# Altium integrated library TI_Logic_Specialty_Logic.IntLib: 2504 symbols (part 36 of 81)
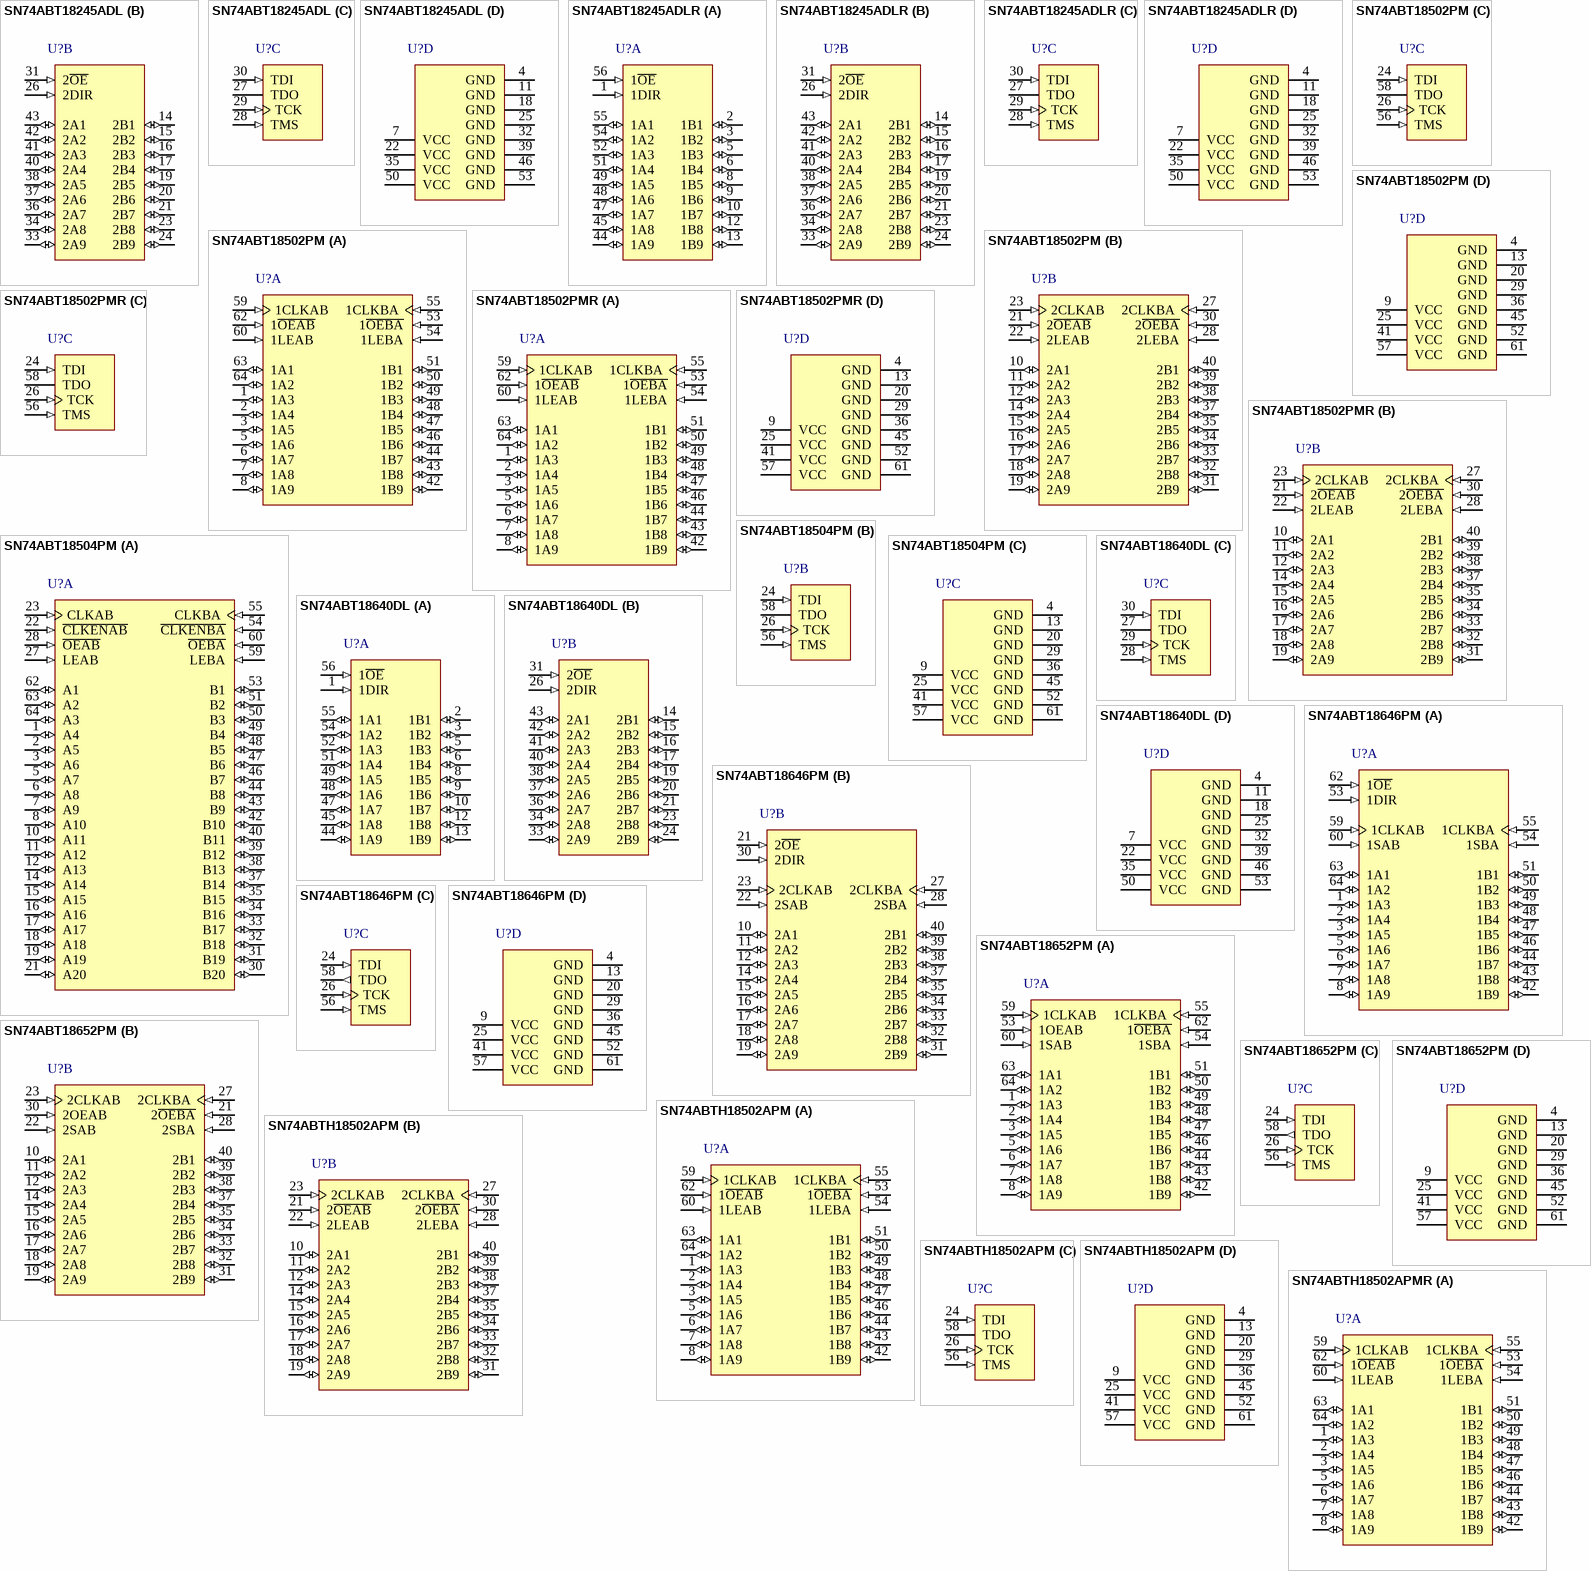
[diagram p139: symbols SN74ABT18245ADL to SN74ABTH18502APMR]

## SN74ABTH18502APM
designator U?
Scan Test Devices With 18-Bit Universal Bus Transceivers, PM0064A, JEDEC TRAY (10+1); Generic Part Number: SN74ABTH18502A; Manufacturer: Texas Instruments; PartNumber: SN74ABTH18502APM; VCC(Min)(V): 4.5; VCC(Max)(V): 5.5; Output Type: TTL; ICC @ Nom Voltage(Max)(mA): 24; Bits(#): 18; F @ Nom Voltage(Max)(Mhz): 150; Rating: Catalog; Technology Family: ABT; Voltage(Nom)(V): 5; Output Drive (IOL/IOH)(Max)(mA): 64/-32; Output Logic: True; DatasheetVersion: SCBS164E; PackageReference: PM0064A; Supplier 1: Mouser; Supplier Part Number 1: 595-SN74ABTH18502APM; Supplier 2: Digi-Key; Supplier Part Number 2: 296-4134-ND; Input Type: TTL; Operating Temperature Range(C): -40 to 85; tpd @ Nom Voltage(Max)(ns): 5.5; ComponentLink1Description: Manufacturer URL; ComponentLink1URL: http://www.ti.com/; ComponentLink2Description: Datasheet; ComponentLink2URL: http://www.ti.com/lit/ds/symlink/sn74abth18502a.pdf
footprint PM0064A_N (QFP, 64-Leads, Body 10x10mm, Pitch 0.5mm, IPC Medium Density)
footprint PM0064A_M (QFP, 64-Leads, Body 10x10mm, Pitch 0.5mm, IPC Low Density)
footprint PM0064A_L (QFP, 64-Leads, Body 10x10mm, Pitch 0.5mm, IPC High Density)
part A pins: 1 1A3 (io) "Normal-function A-bus I/O ports. See function table for normal-mode logic.", 2 1A4 (io) "Normal-function A-bus I/O ports. See function table for normal-mode logic.", 3 1A5 (io) "Normal-function A-bus I/O ports. See function table for normal-mode logic.", 5 1A6 (io) "Normal-function A-bus I/O ports. See function table for normal-mode logic.", 6 1A7 (io) "Normal-function A-bus I/O ports. See function table for normal-mode logic.", 7 1A8 (io) "Normal-function A-bus I/O ports. See function table for normal-mode logic.", 8 1A9 (io) "Normal-function A-bus I/O ports. See function table for normal-mode logic.", 42 1B9 (io) "Normal-function B-bus I/O ports. See function table for normal-mode logic.", 43 1B8 (io) "Normal-function B-bus I/O ports. See function table for normal-mode logic.", 44 1B7 (io) "Normal-function B-bus I/O ports. See function table for normal-mode logic.", 46 1B6 (io) "Normal-function B-bus I/O ports. See function table for normal-mode logic.", 47 1B5 (io) "Normal-function B-bus I/O ports. See function table for normal-mode logic.", 48 1B4 (io) "Normal-function B-bus I/O ports. See function table for normal-mode logic.", 49 1B3 (io) "Normal-function B-bus I/O ports. See function table for normal-mode logic.", 50 1B2 (io) "Normal-function B-bus I/O ports. See function table for normal-mode logic.", 51 1B1 (io) "Normal-function B-bus I/O ports. See function table for normal-mode logic.", 53 1~{OEBA} (in) "Normal-function output enables. See function table for normal-mode logic. An internal pullup at each terminal forces the terminal to a high level if left unconnected.", 54 1LEBA (in) "Normal-function latch enables. See function table for normal-mode logic.", 55 1CLKBA (in) "Normal-function clock inputs. See function table for normal-mode logic.", 59 1CLKAB (in) "Normal-function clock inputs. See function table for normal-mode logic.", 60 1LEAB (in) "Normal-function latch enables. See function table for normal-mode logic.", 62 1~{OEAB} (in) "Normal-function output enables. See function table for normal-mode logic. An internal pullup at each terminal forces the terminal to a high level if left unconnected.", 63 1A1 (io) "Normal-function A-bus I/O ports. See function table for normal-mode logic.", 64 1A2 (io) "Normal-function A-bus I/O ports. See function table for normal-mode logic."
part B pins: 10 2A1 (io) "Normal-function A-bus I/O ports. See function table for normal-mode logic.", 11 2A2 (io) "Normal-function A-bus I/O ports. See function table for normal-mode logic.", 12 2A3 (io) "Normal-function A-bus I/O ports. See function table for normal-mode logic.", 14 2A4 (io) "Normal-function A-bus I/O ports. See function table for normal-mode logic.", 15 2A5 (io) "Normal-function A-bus I/O ports. See function table for normal-mode logic.", 16 2A6 (io) "Normal-function A-bus I/O ports. See function table for normal-mode logic.", 17 2A7 (io) "Normal-function A-bus I/O ports. See function table for normal-mode logic.", 18 2A8 (io) "Normal-function A-bus I/O ports. See function table for normal-mode logic.", 19 2A9 (io) "Normal-function A-bus I/O ports. See function table for normal-mode logic.", 21 2~{OEAB} (in) "Normal-function output enables. See function table for normal-mode logic. An internal pullup at each terminal forces the terminal to a high level if left unconnected.", 22 2LEAB (in) "Normal-function latch enables. See function table for normal-mode logic.", 23 2CLKAB (in) "Normal-function clock inputs. See function table for normal-mode logic.", 27 2CLKBA (in) "Normal-function clock inputs. See function table for normal-mode logic.", 28 2LEBA (in) "Normal-function latch enables. See function table for normal-mode logic.", 30 2~{OEBA} (in) "Normal-function output enables. See function table for normal-mode logic. An internal pullup at each terminal forces the terminal to a high level if left unconnected.", 31 2B9 (io) "Normal-function B-bus I/O ports. See function table for normal-mode logic.", 32 2B8 (io) "Normal-function B-bus I/O ports. See function table for normal-mode logic.", 33 2B7 (io) "Normal-function B-bus I/O ports. See function table for normal-mode logic.", 34 2B6 (io) "Normal-function B-bus I/O ports. See function table for normal-mode logic.", 35 2B5 (io) "Normal-function B-bus I/O ports. See function table for normal-mode logic.", 37 2B4 (io) "Normal-function B-bus I/O ports. See function table for normal-mode logic.", 38 2B3 (io) "Normal-function B-bus I/O ports. See function table for normal-mode logic.", 39 2B2 (io) "Normal-function B-bus I/O ports. See function table for normal-mode logic.", 40 2B1 (io) "Normal-function B-bus I/O ports. See function table for normal-mode logic."
part C pins: 24 TDI (in) "Test data input. One of four terminals required by IEEE Standard 1149.1-1990. TDI is the serial input for shifting data through the instruction register or selected data register. An internal pullup forces TDI to a high (See Datasheet)", 26 TCK (in) "Test clock. One of four terminals required by IEEE Standard 1149.1-1990. Test operations of the device are synchronous to TCK. Data is captured on the rising edge of TCK and outputs change on the falling edge of TCK.", 56 TMS (in) "Test mode select. One of four terminals required by IEEE Standard 1149.1-1990. TMS directs the device through its TAP controller states. An internal pullup forces TMS to a high level if left unconnected.", 58 TDO (hiz) "Test data output. One of four terminals required by IEEE Standard 1149.1-1990. TDO is the serial output for shifting data through the instruction register or selected data register."
part D pins: 4 GND (power) "Ground", 9 VCC (power) "Supply voltage", 13 GND (power) "Ground", 20 GND (power) "Ground", 25 VCC (power) "Supply voltage", 29 GND (power) "Ground", 36 GND (power) "Ground", 41 VCC (power) "Supply voltage", 45 GND (power) "Ground", 52 GND (power) "Ground", 57 VCC (power) "Supply voltage", 61 GND (power) "Ground"

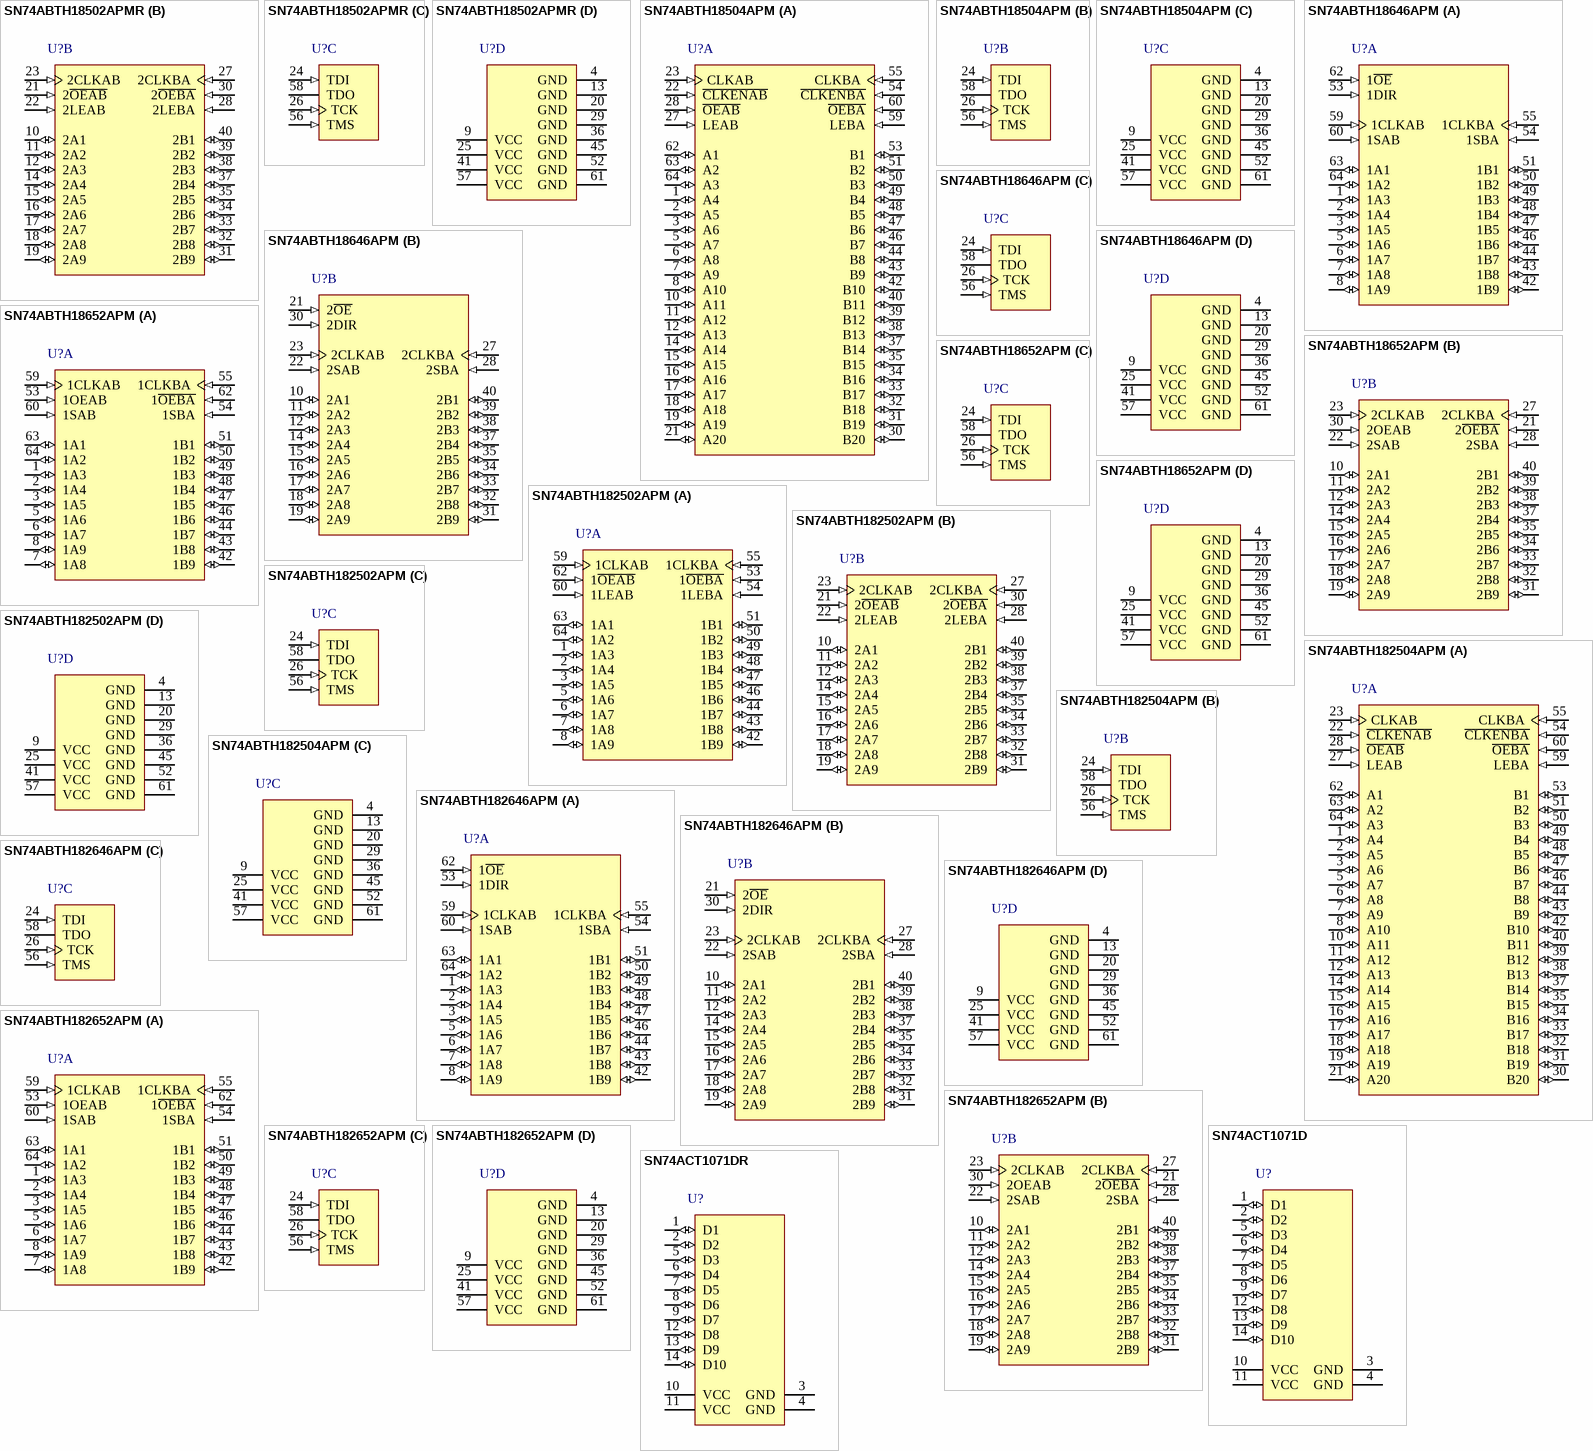
[diagram p48: symbols SN74ABTH18502APMR to SN74ACT1071DR]

## SN74ABTH18502APMR
designator U?
Scan Test Devices With 18-Bit Universal Bus Transceivers, PM0064A, LARGE T&R; Generic Part Number: SN74ABTH18502A; Manufacturer: Texas Instruments; PartNumber: SN74ABTH18502APMR; VCC(Min)(V): 4.5; VCC(Max)(V): 5.5; Output Type: TTL; ICC @ Nom Voltage(Max)(mA): 24; Bits(#): 18; F @ Nom Voltage(Max)(Mhz): 150; Rating: Catalog; Technology Family: ABT; Voltage(Nom)(V): 5; Output Drive (IOL/IOH)(Max)(mA): 64/-32; Output Logic: True; DatasheetVersion: SCBS164E; PackageReference: PM0064A; Supplier 1: Mouser; Supplier Part Number 1: 595-SN74ABTH18502AMR; Supplier 2: Digi-Key; Supplier Part Number 2: 296-14683-2-ND; Supplier 3: Digi-Key; Supplier Part Number 3: 296-14683-1-ND; Supplier 4: Digi-Key; Supplier Part Number 4: 296-14683-6-ND; Input Type: TTL; Operating Temperature Range(C): -40 to 85; tpd @ Nom Voltage(Max)(ns): 5.5; ComponentLink1Description: Manufacturer URL; ComponentLink1URL: http://www.ti.com/; ComponentLink2Description: Datasheet; ComponentLink2URL: http://www.ti.com/lit/ds/symlink/sn74abth18502a.pdf
footprint PM0064A_N (QFP, 64-Leads, Body 10x10mm, Pitch 0.5mm, IPC Medium Density)
footprint PM0064A_M (QFP, 64-Leads, Body 10x10mm, Pitch 0.5mm, IPC Low Density)
footprint PM0064A_L (QFP, 64-Leads, Body 10x10mm, Pitch 0.5mm, IPC High Density)
part A pins: 1 1A3 (io) "Normal-function A-bus I/O ports. See function table for normal-mode logic.", 2 1A4 (io) "Normal-function A-bus I/O ports. See function table for normal-mode logic.", 3 1A5 (io) "Normal-function A-bus I/O ports. See function table for normal-mode logic.", 5 1A6 (io) "Normal-function A-bus I/O ports. See function table for normal-mode logic.", 6 1A7 (io) "Normal-function A-bus I/O ports. See function table for normal-mode logic.", 7 1A8 (io) "Normal-function A-bus I/O ports. See function table for normal-mode logic.", 8 1A9 (io) "Normal-function A-bus I/O ports. See function table for normal-mode logic.", 42 1B9 (io) "Normal-function B-bus I/O ports. See function table for normal-mode logic.", 43 1B8 (io) "Normal-function B-bus I/O ports. See function table for normal-mode logic.", 44 1B7 (io) "Normal-function B-bus I/O ports. See function table for normal-mode logic.", 46 1B6 (io) "Normal-function B-bus I/O ports. See function table for normal-mode logic.", 47 1B5 (io) "Normal-function B-bus I/O ports. See function table for normal-mode logic.", 48 1B4 (io) "Normal-function B-bus I/O ports. See function table for normal-mode logic.", 49 1B3 (io) "Normal-function B-bus I/O ports. See function table for normal-mode logic.", 50 1B2 (io) "Normal-function B-bus I/O ports. See function table for normal-mode logic.", 51 1B1 (io) "Normal-function B-bus I/O ports. See function table for normal-mode logic.", 53 1~{OEBA} (in) "Normal-function output enables. See function table for normal-mode logic. An internal pullup at each terminal forces the terminal to a high level if left unconnected.", 54 1LEBA (in) "Normal-function latch enables. See function table for normal-mode logic.", 55 1CLKBA (in) "Normal-function clock inputs. See function table for normal-mode logic.", 59 1CLKAB (in) "Normal-function clock inputs. See function table for normal-mode logic.", 60 1LEAB (in) "Normal-function latch enables. See function table for normal-mode logic.", 62 1~{OEAB} (in) "Normal-function output enables. See function table for normal-mode logic. An internal pullup at each terminal forces the terminal to a high level if left unconnected.", 63 1A1 (io) "Normal-function A-bus I/O ports. See function table for normal-mode logic.", 64 1A2 (io) "Normal-function A-bus I/O ports. See function table for normal-mode logic."
part B pins: 10 2A1 (io) "Normal-function A-bus I/O ports. See function table for normal-mode logic.", 11 2A2 (io) "Normal-function A-bus I/O ports. See function table for normal-mode logic.", 12 2A3 (io) "Normal-function A-bus I/O ports. See function table for normal-mode logic.", 14 2A4 (io) "Normal-function A-bus I/O ports. See function table for normal-mode logic.", 15 2A5 (io) "Normal-function A-bus I/O ports. See function table for normal-mode logic.", 16 2A6 (io) "Normal-function A-bus I/O ports. See function table for normal-mode logic.", 17 2A7 (io) "Normal-function A-bus I/O ports. See function table for normal-mode logic.", 18 2A8 (io) "Normal-function A-bus I/O ports. See function table for normal-mode logic.", 19 2A9 (io) "Normal-function A-bus I/O ports. See function table for normal-mode logic.", 21 2~{OEAB} (in) "Normal-function output enables. See function table for normal-mode logic. An internal pullup at each terminal forces the terminal to a high level if left unconnected.", 22 2LEAB (in) "Normal-function latch enables. See function table for normal-mode logic.", 23 2CLKAB (in) "Normal-function clock inputs. See function table for normal-mode logic.", 27 2CLKBA (in) "Normal-function clock inputs. See function table for normal-mode logic.", 28 2LEBA (in) "Normal-function latch enables. See function table for normal-mode logic.", 30 2~{OEBA} (in) "Normal-function output enables. See function table for normal-mode logic. An internal pullup at each terminal forces the terminal to a high level if left unconnected.", 31 2B9 (io) "Normal-function B-bus I/O ports. See function table for normal-mode logic.", 32 2B8 (io) "Normal-function B-bus I/O ports. See function table for normal-mode logic.", 33 2B7 (io) "Normal-function B-bus I/O ports. See function table for normal-mode logic.", 34 2B6 (io) "Normal-function B-bus I/O ports. See function table for normal-mode logic.", 35 2B5 (io) "Normal-function B-bus I/O ports. See function table for normal-mode logic.", 37 2B4 (io) "Normal-function B-bus I/O ports. See function table for normal-mode logic.", 38 2B3 (io) "Normal-function B-bus I/O ports. See function table for normal-mode logic.", 39 2B2 (io) "Normal-function B-bus I/O ports. See function table for normal-mode logic.", 40 2B1 (io) "Normal-function B-bus I/O ports. See function table for normal-mode logic."
part C pins: 24 TDI (in) "Test data input. One of four terminals required by IEEE Standard 1149.1-1990. TDI is the serial input for shifting data through the instruction register or selected data register. An internal pullup forces TDI to a high (See Datasheet)", 26 TCK (in) "Test clock. One of four terminals required by IEEE Standard 1149.1-1990. Test operations of the device are synchronous to TCK. Data is captured on the rising edge of TCK and outputs change on the falling edge of TCK.", 56 TMS (in) "Test mode select. One of four terminals required by IEEE Standard 1149.1-1990. TMS directs the device through its TAP controller states. An internal pullup forces TMS to a high level if left unconnected.", 58 TDO (hiz) "Test data output. One of four terminals required by IEEE Standard 1149.1-1990. TDO is the serial output for shifting data through the instruction register or selected data register."
part D pins: 4 GND (power) "Ground", 9 VCC (power) "Supply voltage", 13 GND (power) "Ground", 20 GND (power) "Ground", 25 VCC (power) "Supply voltage", 29 GND (power) "Ground", 36 GND (power) "Ground", 41 VCC (power) "Supply voltage", 45 GND (power) "Ground", 52 GND (power) "Ground", 57 VCC (power) "Supply voltage", 61 GND (power) "Ground"

## SN74ABTH18504APM
designator U?
Scan Test Devices With 20-Bit Universal Bus Transceivers, PM0064A, JEDEC TRAY (10+1); Generic Part Number: SN74ABTH18504A; Manufacturer: Texas Instruments; PartNumber: SN74ABTH18504APM; VCC(Min)(V): 4.5; VCC(Max)(V): 5.5; Output Type: TTL; ICC @ Nom Voltage(Max)(mA): 27; Bits(#): 20; F @ Nom Voltage(Max)(Mhz): 150; Rating: Catalog; Technology Family: ABT; Voltage(Nom)(V): 5; Output Drive (IOL/IOH)(Max)(mA): 64/-32; Output Logic: True; DatasheetVersion: SCBS165C; PackageReference: PM0064A; Supplier 1: Mouser; Supplier Part Number 1: 595-SN74ABTH18504APM; Supplier 2: Digi-Key; Supplier Part Number 2: 296-4135-ND; Input Type: TTL; Operating Temperature Range(C): -40 to 85; tpd @ Nom Voltage(Max)(ns): 5.5; ComponentLink1Description: Manufacturer URL; ComponentLink1URL: http://www.ti.com/; ComponentLink2Description: Datasheet; ComponentLink2URL: http://www.ti.com/lit/ds/symlink/sn74abth18504a.pdf
footprint PM0064A_N (QFP, 64-Leads, Body 10x10mm, Pitch 0.5mm, IPC Medium Density)
footprint PM0064A_M (QFP, 64-Leads, Body 10x10mm, Pitch 0.5mm, IPC Low Density)
footprint PM0064A_L (QFP, 64-Leads, Body 10x10mm, Pitch 0.5mm, IPC High Density)
part A pins: 1 A4 (io) "Normal-function A-bus I/O ports. See function table for normal-mode logic.", 2 A5 (io) "Normal-function A-bus I/O ports. See function table for normal-mode logic.", 3 A6 (io) "Normal-function A-bus I/O ports. See function table for normal-mode logic.", 5 A7 (io) "Normal-function A-bus I/O ports. See function table for normal-mode logic.", 6 A8 (io) "Normal-function A-bus I/O ports. See function table for normal-mode logic.", 7 A9 (io) "Normal-function A-bus I/O ports. See function table for normal-mode logic.", 8 A10 (io) "Normal-function A-bus I/O ports. See function table for normal-mode logic.", 10 A11 (io) "Normal-function A-bus I/O ports. See function table for normal-mode logic.", 11 A12 (io) "Normal-function A-bus I/O ports. See function table for normal-mode logic.", 12 A13 (io) "Normal-function A-bus I/O ports. See function table for normal-mode logic.", 14 A14 (io) "Normal-function A-bus I/O ports. See function table for normal-mode logic.", 15 A15 (io) "Normal-function A-bus I/O ports. See function table for normal-mode logic.", 16 A16 (io) "Normal-function A-bus I/O ports. See function table for normal-mode logic.", 17 A17 (io) "Normal-function A-bus I/O ports. See function table for normal-mode logic.", 18 A18 (io) "Normal-function A-bus I/O ports. See function table for normal-mode logic.", 19 A19 (io) "Normal-function A-bus I/O ports. See function table for normal-mode logic.", 21 A20 (io) "Normal-function A-bus I/O ports. See function table for normal-mode logic.", 22 ~{CLKENAB} (in) "Normal-function clock enables. See function table for normal-mode logic.", 23 CLKAB (in) "Normal-function clock inputs. See function table for normal-mode logic.", 27 LEAB (in) "Normal-function latch enables. See function table for normal-mode logic.", 28 ~{OEAB} (in) "Normal-function output enables. See function table for normal-mode logic.", 30 B20 (io) "Normal-function B-bus I/O ports. See function table for normal-mode logic.", 31 B19 (io) "Normal-function B-bus I/O ports. See function table for normal-mode logic.", 32 B18 (io) "Normal-function B-bus I/O ports. See function table for normal-mode logic.", 33 B17 (io) "Normal-function B-bus I/O ports. See function table for normal-mode logic.", 34 B16 (io) "Normal-function B-bus I/O ports. See function table for normal-mode logic.", 35 B15 (io) "Normal-function B-bus I/O ports. See function table for normal-mode logic.", 37 B14 (io) "Normal-function B-bus I/O ports. See function table for normal-mode logic.", 38 B13 (io) "Normal-function B-bus I/O ports. See function table for normal-mode logic.", 39 B12 (io) "Normal-function B-bus I/O ports. See function table for normal-mode logic.", 40 B11 (io) "Normal-function B-bus I/O ports. See function table for normal-mode logic.", 42 B10 (io) "Normal-function B-bus I/O ports. See function table for normal-mode logic.", 43 B9 (io) "Normal-function B-bus I/O ports. See function table for normal-mode logic.", 44 B8 (io) "Normal-function B-bus I/O ports. See function table for normal-mode logic.", 46 B7 (io) "Normal-function B-bus I/O ports. See function table for normal-mode logic.", 47 B6 (io) "Normal-function B-bus I/O ports. See function table for normal-mode logic.", 48 B5 (io) "Normal-function B-bus I/O ports. See function table for normal-mode logic.", 49 B4 (io) "Normal-function B-bus I/O ports. See function table for normal-mode logic.", 50 B3 (io) "Normal-function B-bus I/O ports. See function table for normal-mode logic.", 51 B2 (io) "Normal-function B-bus I/O ports. See function table for normal-mode logic.", 53 B1 (io) "Normal-function B-bus I/O ports. See function table for normal-mode logic.", 54 ~{CLKENBA} (in) "Normal-function clock enables. See function table for normal-mode logic.", 55 CLKBA (in) "Normal-function clock inputs. See function table for normal-mode logic.", 59 LEBA (in) "Normal-function latch enables. See function table for normal-mode logic.", 60 ~{OEBA} (in) "Normal-function output enables. See function table for normal-mode logic.", 62 A1 (io) "Normal-function A-bus I/O ports. See function table for normal-mode logic.", 63 A2 (io) "Normal-function A-bus I/O ports. See function table for normal-mode logic.", 64 A3 (io) "Normal-function A-bus I/O ports. See function table for normal-mode logic."
part B pins: 24 TDI (in) "Test data input. One of four pins required by IEEE Standard 1149.1-1990. The test data input is the serial input for shifting data through the instruction register or selected data register. An internal pullup forces TDI to (See Datasheet)", 26 TCK (in) "Test clock. One of four pins required by IEEE Standard 1149.1-1990. Test operations of the device are synchronous to the test clock. Data is captured on the rising edge of TCK and outputs change on the falling edge of TCK.", 56 TMS (in) "Test mode select. One of four pins required by IEEE Standard 1149.1-1990. The test mode select input directs the device through its test access port (TAP) controller states. An internal pullup forces TMS to a high level if (See Datasheet)", 58 TDO (hiz) "Test data output. One of four pins required by IEEE Standard 1149.1-1990. The test data output is the serial output for shifting data through the instruction register or selected data register."
part C pins: 4 GND (power) "Ground", 9 VCC (power) "Supply voltage", 13 GND (power) "Ground", 20 GND (power) "Ground", 25 VCC (power) "Supply voltage", 29 GND (power) "Ground", 36 GND (power) "Ground", 41 VCC (power) "Supply voltage", 45 GND (power) "Ground", 52 GND (power) "Ground", 57 VCC (power) "Supply voltage", 61 GND (power) "Ground"

## SN74ABTH18646APM
designator U?
Scan Test Devices With 18-Bit Transceivers And Registers, PM0064A, JEDEC TRAY (10+1); Generic Part Number: SN74ABTH18646A; Manufacturer: Texas Instruments; PartNumber: SN74ABTH18646APM; VCC(Min)(V): 4.5; VCC(Max)(V): 5.5; Output Type: TTL; ICC @ Nom Voltage(Max)(mA): 24; Bits(#): 18; F @ Nom Voltage(Max)(Mhz): 150; Rating: Catalog; Technology Family: ABT; Voltage(Nom)(V): 5; Output Drive (IOL/IOH)(Max)(mA): 64/-32; Output Logic: True; tpd @ Nom Voltage(Max)(ns): 6; DatasheetVersion: SCBS166D; PackageReference: PM0064A; Supplier 1: Mouser; Supplier Part Number 1: 595-SN74ABTH18646APM; Supplier 2: Digi-Key; Supplier Part Number 2: 296-4136-ND; Input Type: TTL; Operating Temperature Range(C): -40 to 85; ComponentLink1Description: Manufacturer URL; ComponentLink1URL: http://www.ti.com/; ComponentLink2Description: Datasheet; ComponentLink2URL: http://www.ti.com/lit/ds/symlink/sn74abth18646a.pdf
footprint PM0064A_N (QFP, 64-Leads, Body 10x10mm, Pitch 0.5mm, IPC Medium Density)
footprint PM0064A_M (QFP, 64-Leads, Body 10x10mm, Pitch 0.5mm, IPC Low Density)
footprint PM0064A_L (QFP, 64-Leads, Body 10x10mm, Pitch 0.5mm, IPC High Density)
part A pins: 1 1A3 (io) "Normal-function A-bus I/O ports. See function table for normal-mode logic.", 2 1A4 (io) "Normal-function A-bus I/O ports. See function table for normal-mode logic.", 3 1A5 (io) "Normal-function A-bus I/O ports. See function table for normal-mode logic.", 5 1A6 (io) "Normal-function A-bus I/O ports. See function table for normal-mode logic.", 6 1A7 (io) "Normal-function A-bus I/O ports. See function table for normal-mode logic.", 7 1A8 (io) "Normal-function A-bus I/O ports. See function table for normal-mode logic.", 8 1A9 (io) "Normal-function A-bus I/O ports. See function table for normal-mode logic.", 42 1B9 (io) "Normal-function B-bus I/O ports. See function table for normal-mode logic.", 43 1B8 (io) "Normal-function B-bus I/O ports. See function table for normal-mode logic.", 44 1B7 (io) "Normal-function B-bus I/O ports. See function table for normal-mode logic.", 46 1B6 (io) "Normal-function B-bus I/O ports. See function table for normal-mode logic.", 47 1B5 (io) "Normal-function B-bus I/O ports. See function table for normal-mode logic.", 48 1B4 (io) "Normal-function B-bus I/O ports. See function table for normal-mode logic.", 49 1B3 (io) "Normal-function B-bus I/O ports. See function table for normal-mode logic.", 50 1B2 (io) "Normal-function B-bus I/O ports. See function table for normal-mode logic.", 51 1B1 (io) "Normal-function B-bus I/O ports. See function table for normal-mode logic.", 53 1DIR (in) "Normal-function direction controls. See function table for normal-mode logic.", 54 1SBA (in) "Normal-function select controls. See function table for normal-mode logic.", 55 1CLKBA (in) "Normal-function clock inputs. See function table for normal-mode logic.", 59 1CLKAB (in) "Normal-function clock inputs. See function table for normal-mode logic.", 60 1SAB (in) "Normal-function select controls. See function table for normal-mode logic.", 62 1~{OE} (in) "Normal-function output enables. See function table for normal-mode logic. An internal pullup at each terminal forces the terminal to a high level if left unconnected.", 63 1A1 (io) "Normal-function A-bus I/O ports. See function table for normal-mode logic.", 64 1A2 (io) "Normal-function A-bus I/O ports. See function table for normal-mode logic."
part B pins: 10 2A1 (io) "Normal-function A-bus I/O ports. See function table for normal-mode logic.", 11 2A2 (io) "Normal-function A-bus I/O ports. See function table for normal-mode logic.", 12 2A3 (io) "Normal-function A-bus I/O ports. See function table for normal-mode logic.", 14 2A4 (io) "Normal-function A-bus I/O ports. See function table for normal-mode logic.", 15 2A5 (io) "Normal-function A-bus I/O ports. See function table for normal-mode logic.", 16 2A6 (io) "Normal-function A-bus I/O ports. See function table for normal-mode logic.", 17 2A7 (io) "Normal-function A-bus I/O ports. See function table for normal-mode logic.", 18 2A8 (io) "Normal-function A-bus I/O ports. See function table for normal-mode logic.", 19 2A9 (io) "Normal-function A-bus I/O ports. See function table for normal-mode logic.", 21 2~{OE} (in) "Normal-function output enables. See function table for normal-mode logic. An internal pullup at each terminal forces the terminal to a high level if left unconnected.", 22 2SAB (in) "Normal-function select controls. See function table for normal-mode logic.", 23 2CLKAB (in) "Normal-function clock inputs. See function table for normal-mode logic.", 27 2CLKBA (in) "Normal-function clock inputs. See function table for normal-mode logic.", 28 2SBA (in) "Normal-function select controls. See function table for normal-mode logic.", 30 2DIR (in) "Normal-function direction controls. See function table for normal-mode logic.", 31 2B9 (io) "Normal-function B-bus I/O ports. See function table for normal-mode logic.", 32 2B8 (io) "Normal-function B-bus I/O ports. See function table for normal-mode logic.", 33 2B7 (io) "Normal-function B-bus I/O ports. See function table for normal-mode logic.", 34 2B6 (io) "Normal-function B-bus I/O ports. See function table for normal-mode logic.", 35 2B5 (io) "Normal-function B-bus I/O ports. See function table for normal-mode logic.", 37 2B4 (io) "Normal-function B-bus I/O ports. See function table for normal-mode logic.", 38 2B3 (io) "Normal-function B-bus I/O ports. See function table for normal-mode logic.", 39 2B2 (io) "Normal-function B-bus I/O ports. See function table for normal-mode logic.", 40 2B1 (io) "Normal-function B-bus I/O ports. See function table for normal-mode logic."
part C pins: 24 TDI (in) "Test data input. One of four terminals required by IEEE Std 1149.1-1990. TDI is the serial input for shifting data through the instruction register or selected data register. An internal pullup forces TDI to a high level if (See Datasheet)", 26 TCK (in) "Test clock. One of four terminals required by IEEE Std 1149.1-1990. Test operations of the device are synchronous to TCK. Data is captured on the rising edge of TCK and outputs change on the falling edge of TCK.", 56 TMS (in) "Test mode select. One of four terminals required by IEEE Std 1149.1-1990. TMS directs the device through its TAP controller states. An internal pullup forces TMS to a high level if left unconnected.", 58 TDO (hiz) "Test data output. One of four terminals required by IEEE Std 1149.1-1990. TDO is the serial output for shifting data through the instruction register or selected data register."
part D pins: 4 GND (power), 9 VCC (power) "Supply voltage", 13 GND (power), 20 GND (power), 25 VCC (power) "Supply voltage", 29 GND (power), 36 GND (power), 41 VCC (power) "Supply voltage", 45 GND (power), 52 GND (power), 57 VCC (power) "Supply voltage", 61 GND (power)

## SN74ABTH18652APM
designator U?
Scan Test Devices With 18-Bit Transceivers And Registers, PM0064A, JEDEC TRAY (10+1); Generic Part Number: SN74ABTH18652A; Manufacturer: Texas Instruments; PartNumber: SN74ABTH18652APM; VCC(Min)(V): 4.5; VCC(Max)(V): 5.5; Output Type: TTL; ICC @ Nom Voltage(Max)(mA): 24; Bits(#): 18; F @ Nom Voltage(Max)(Mhz): 150; Rating: Catalog; Technology Family: ABT; Voltage(Nom)(V): 5; Output Drive (IOL/IOH)(Max)(mA): 64/-32; Output Logic: True; tpd @ Nom Voltage(Max)(ns): 5.4; DatasheetVersion: SCBS167D; PackageReference: PM0064A; Supplier 1: Mouser; Supplier Part Number 1: 595-SN74ABTH18652APM; Supplier 2: Digi-Key; Supplier Part Number 2: 296-4137-ND; Input Type: TTL; Operating Temperature Range(C): -40 to 85; ComponentLink1Description: Manufacturer URL; ComponentLink1URL: http://www.ti.com/; ComponentLink2Description: Datasheet; ComponentLink2URL: http://www.ti.com/lit/ds/symlink/sn74abth18652a.pdf
footprint PM0064A_N (QFP, 64-Leads, Body 10x10mm, Pitch 0.5mm, IPC Medium Density)
footprint PM0064A_M (QFP, 64-Leads, Body 10x10mm, Pitch 0.5mm, IPC Low Density)
footprint PM0064A_L (QFP, 64-Leads, Body 10x10mm, Pitch 0.5mm, IPC High Density)
part A pins: 1 1A3 (io) "Normal-function A-bus I/O ports. See function table for normal-mode logic.", 2 1A4 (io) "Normal-function A-bus I/O ports. See function table for normal-mode logic.", 3 1A5 (io) "Normal-function A-bus I/O ports. See function table for normal-mode logic.", 5 1A6 (io) "Normal-function A-bus I/O ports. See function table for normal-mode logic.", 6 1A7 (io) "Normal-function A-bus I/O ports. See function table for normal-mode logic.", 7 1A8 (io) "Normal-function A-bus I/O ports. See function table for normal-mode logic.", 8 1A9 (io) "Normal-function A-bus I/O ports. See function table for normal-mode logic.", 42 1B9 (io) "Normal-function B-bus I/O ports. See function table for normal-mode logic.", 43 1B8 (io) "Normal-function B-bus I/O ports. See function table for normal-mode logic.", 44 1B7 (io) "Normal-function B-bus I/O ports. See function table for normal-mode logic.", 46 1B6 (io) "Normal-function B-bus I/O ports. See function table for normal-mode logic.", 47 1B5 (io) "Normal-function B-bus I/O ports. See function table for normal-mode logic.", 48 1B4 (io) "Normal-function B-bus I/O ports. See function table for normal-mode logic.", 49 1B3 (io) "Normal-function B-bus I/O ports. See function table for normal-mode logic.", 50 1B2 (io) "Normal-function B-bus I/O ports. See function table for normal-mode logic.", 51 1B1 (io) "Normal-function B-bus I/O ports. See function table for normal-mode logic.", 53 1OEAB (in) "Normal-function active-high output enables. See function table for normal-mode logic. An internal pulldown at each terminal forces the terminal to a high level if left unconnected.", 54 1SBA (in) "Normal-function select controls. See function table for normal-mode logic.", 55 1CLKBA (in) "Normal-function clock inputs. See function table for normal-mode logic.", 59 1CLKAB (in) "Normal-function clock inputs. See function table for normal-mode logic.", 60 1SAB (in) "Normal-function select controls. See function table for normal-mode logic.", 62 1~{OEBA} (in) "Normal-function active-low output enables. See function table for normal-mode logic. An internal pullup at each terminal forces the terminal to a high level if left unconnected.", 63 1A1 (io) "Normal-function A-bus I/O ports. See function table for normal-mode logic.", 64 1A2 (io) "Normal-function A-bus I/O ports. See function table for normal-mode logic."
part B pins: 10 2A1 (io) "Normal-function A-bus I/O ports. See function table for normal-mode logic.", 11 2A2 (io) "Normal-function A-bus I/O ports. See function table for normal-mode logic.", 12 2A3 (io) "Normal-function A-bus I/O ports. See function table for normal-mode logic.", 14 2A4 (io) "Normal-function A-bus I/O ports. See function table for normal-mode logic.", 15 2A5 (io) "Normal-function A-bus I/O ports. See function table for normal-mode logic.", 16 2A6 (io) "Normal-function A-bus I/O ports. See function table for normal-mode logic.", 17 2A7 (io) "Normal-function A-bus I/O ports. See function table for normal-mode logic.", 18 2A8 (io) "Normal-function A-bus I/O ports. See function table for normal-mode logic.", 19 2A9 (io) "Normal-function A-bus I/O ports. See function table for normal-mode logic.", 21 2~{OEBA} (in) "Normal-function active-low output enables. See function table for normal-mode logic. An internal pullup at each terminal forces the terminal to a high level if left unconnected.", 22 2SAB (in) "Normal-function select controls. See function table for normal-mode logic.", 23 2CLKAB (in) "Normal-function clock inputs. See function table for normal-mode logic.", 27 2CLKBA (in) "Normal-function clock inputs. See function table for normal-mode logic.", 28 2SBA (in) "Normal-function select controls. See function table for normal-mode logic.", 30 2OEAB (in) "Normal-function active-high output enables. See function table for normal-mode logic. An internal pulldown at each terminal forces the terminal to a high level if left unconnected.", 31 2B9 (io) "Normal-function B-bus I/O ports. See function table for normal-mode logic.", 32 2B8 (io) "Normal-function B-bus I/O ports. See function table for normal-mode logic.", 33 2B7 (io) "Normal-function B-bus I/O ports. See function table for normal-mode logic.", 34 2B6 (io) "Normal-function B-bus I/O ports. See function table for normal-mode logic.", 35 2B5 (io) "Normal-function B-bus I/O ports. See function table for normal-mode logic.", 37 2B4 (io) "Normal-function B-bus I/O ports. See function table for normal-mode logic.", 38 2B3 (io) "Normal-function B-bus I/O ports. See function table for normal-mode logic.", 39 2B2 (io) "Normal-function B-bus I/O ports. See function table for normal-mode logic.", 40 2B1 (io) "Normal-function B-bus I/O ports. See function table for normal-mode logic."
part C pins: 24 TDI (in) "Test data input. One of four terminals required by IEEE Standard 1149.1-1990. TDI is the serial input for shifting data through the instruction register or selected data register. An internal pullup forces TDI to a high (See Datasheet)", 26 TCK (in) "Test clock. One of four terminals required by IEEE Standard 1149.1-1990. Test operations of the device are synchronous to TCK. Data is captured on the rising edge of TCK and outputs change on the falling edge of TCK.", 56 TMS (in) "Test mode select. One of four terminals required by IEEE Standard 1149.1-1990. TMS directs the device through its TAP controller states. An internal pullup forces TMS to a high level if left unconnected.", 58 TDO (hiz) "Test data output. One of four terminals required by IEEE Standard 1149.1-1990. TDO is the serial output for shifting data through the instruction register or selected data register."
part D pins: 4 GND (power) "Ground", 9 VCC (power) "Supply voltage", 13 GND (power) "Ground", 20 GND (power) "Ground", 25 VCC (power) "Supply voltage", 29 GND (power) "Ground", 36 GND (power) "Ground", 41 VCC (power) "Supply voltage", 45 GND (power) "Ground", 52 GND (power) "Ground", 57 VCC (power) "Supply voltage", 61 GND (power) "Ground"

## SN74ABTH182502APM
designator U?
Scan Test Devices With 18-Bit Universal Bus Transceivers, PM0064A, JEDEC TRAY (10+1); Generic Part Number: SN74ABTH182502A; Manufacturer: Texas Instruments; PartNumber: SN74ABTH182502APM; VCC(Min)(V): 4.5; VCC(Max)(V): 5.5; Output Type: TTL; ICC @ Nom Voltage(Max)(mA): 27; Bits(#): 18; F @ Nom Voltage(Max)(Mhz): 150; Rating: Catalog; Technology Family: ABT; Voltage(Nom)(V): 5; Output Drive (IOL/IOH)(Max)(mA): 64/-32; Output Logic: True; tpd @ Nom Voltage(Max)(ns): 6.2; DatasheetVersion: SCBS164E; PackageReference: PM0064A; Supplier 1: Mouser; Supplier Part Number 1: 595-SN74ABTH182502AP; Supplier 2: Digi-Key; Supplier Part Number 2: 296-4131-ND; Input Type: TTL; Operating Temperature Range(C): -40 to 85; ComponentLink1Description: Manufacturer URL; ComponentLink1URL: http://www.ti.com/; ComponentLink2Description: Datasheet; ComponentLink2URL: http://www.ti.com/lit/ds/symlink/sn74abth182502a.pdf
footprint PM0064A_N (QFP, 64-Leads, Body 10x10mm, Pitch 0.5mm, IPC Medium Density)
footprint PM0064A_M (QFP, 64-Leads, Body 10x10mm, Pitch 0.5mm, IPC Low Density)
footprint PM0064A_L (QFP, 64-Leads, Body 10x10mm, Pitch 0.5mm, IPC High Density)
part A pins: 1 1A3 (io) "Normal-function A-bus I/O ports. See function table for normal-mode logic.", 2 1A4 (io) "Normal-function A-bus I/O ports. See function table for normal-mode logic.", 3 1A5 (io) "Normal-function A-bus I/O ports. See function table for normal-mode logic.", 5 1A6 (io) "Normal-function A-bus I/O ports. See function table for normal-mode logic.", 6 1A7 (io) "Normal-function A-bus I/O ports. See function table for normal-mode logic.", 7 1A8 (io) "Normal-function A-bus I/O ports. See function table for normal-mode logic.", 8 1A9 (io) "Normal-function A-bus I/O ports. See function table for normal-mode logic.", 42 1B9 (io) "Normal-function B-bus I/O ports. See function table for normal-mode logic.", 43 1B8 (io) "Normal-function B-bus I/O ports. See function table for normal-mode logic.", 44 1B7 (io) "Normal-function B-bus I/O ports. See function table for normal-mode logic.", 46 1B6 (io) "Normal-function B-bus I/O ports. See function table for normal-mode logic.", 47 1B5 (io) "Normal-function B-bus I/O ports. See function table for normal-mode logic.", 48 1B4 (io) "Normal-function B-bus I/O ports. See function table for normal-mode logic.", 49 1B3 (io) "Normal-function B-bus I/O ports. See function table for normal-mode logic.", 50 1B2 (io) "Normal-function B-bus I/O ports. See function table for normal-mode logic.", 51 1B1 (io) "Normal-function B-bus I/O ports. See function table for normal-mode logic.", 53 1~{OEBA} (in) "Normal-function output enables. See function table for normal-mode logic. An internal pullup at each terminal forces the terminal to a high level if left unconnected.", 54 1LEBA (in) "Normal-function latch enables. See function table for normal-mode logic.", 55 1CLKBA (in) "Normal-function clock inputs. See function table for normal-mode logic.", 59 1CLKAB (in) "Normal-function clock inputs. See function table for normal-mode logic.", 60 1LEAB (in) "Normal-function latch enables. See function table for normal-mode logic.", 62 1~{OEAB} (in) "Normal-function output enables. See function table for normal-mode logic. An internal pullup at each terminal forces the terminal to a high level if left unconnected.", 63 1A1 (io) "Normal-function A-bus I/O ports. See function table for normal-mode logic.", 64 1A2 (io) "Normal-function A-bus I/O ports. See function table for normal-mode logic."
part B pins: 10 2A1 (io) "Normal-function A-bus I/O ports. See function table for normal-mode logic.", 11 2A2 (io) "Normal-function A-bus I/O ports. See function table for normal-mode logic.", 12 2A3 (io) "Normal-function A-bus I/O ports. See function table for normal-mode logic.", 14 2A4 (io) "Normal-function A-bus I/O ports. See function table for normal-mode logic.", 15 2A5 (io) "Normal-function A-bus I/O ports. See function table for normal-mode logic.", 16 2A6 (io) "Normal-function A-bus I/O ports. See function table for normal-mode logic.", 17 2A7 (io) "Normal-function A-bus I/O ports. See function table for normal-mode logic.", 18 2A8 (io) "Normal-function A-bus I/O ports. See function table for normal-mode logic.", 19 2A9 (io) "Normal-function A-bus I/O ports. See function table for normal-mode logic.", 21 2~{OEAB} (in) "Normal-function output enables. See function table for normal-mode logic. An internal pullup at each terminal forces the terminal to a high level if left unconnected.", 22 2LEAB (in) "Normal-function latch enables. See function table for normal-mode logic.", 23 2CLKAB (in) "Normal-function clock inputs. See function table for normal-mode logic.", 27 2CLKBA (in) "Normal-function clock inputs. See function table for normal-mode logic.", 28 2LEBA (in) "Normal-function latch enables. See function table for normal-mode logic.", 30 2~{OEBA} (in) "Normal-function output enables. See function table for normal-mode logic. An internal pullup at each terminal forces the terminal to a high level if left unconnected.", 31 2B9 (io) "Normal-function B-bus I/O ports. See function table for normal-mode logic.", 32 2B8 (io) "Normal-function B-bus I/O ports. See function table for normal-mode logic.", 33 2B7 (io) "Normal-function B-bus I/O ports. See function table for normal-mode logic.", 34 2B6 (io) "Normal-function B-bus I/O ports. See function table for normal-mode logic.", 35 2B5 (io) "Normal-function B-bus I/O ports. See function table for normal-mode logic.", 37 2B4 (io) "Normal-function B-bus I/O ports. See function table for normal-mode logic.", 38 2B3 (io) "Normal-function B-bus I/O ports. See function table for normal-mode logic.", 39 2B2 (io) "Normal-function B-bus I/O ports. See function table for normal-mode logic.", 40 2B1 (io) "Normal-function B-bus I/O ports. See function table for normal-mode logic."
part C pins: 24 TDI (in) "Test data input. One of four terminals required by IEEE Standard 1149.1-1990. TDI is the serial input for shifting data through the instruction register or selected data register. An internal pullup forces TDI to a high (See Datasheet)", 26 TCK (in) "Test clock. One of four terminals required by IEEE Standard 1149.1-1990. Test operations of the device are synchronous to TCK. Data is captured on the rising edge of TCK and outputs change on the falling edge of TCK.", 56 TMS (in) "Test mode select. One of four terminals required by IEEE Standard 1149.1-1990. TMS directs the device through its TAP controller states. An internal pullup forces TMS to a high level if left unconnected.", 58 TDO (hiz) "Test data output. One of four terminals required by IEEE Standard 1149.1-1990. TDO is the serial output for shifting data through the instruction register or selected data register."
part D pins: 4 GND (power) "Ground", 9 VCC (power) "Supply voltage", 13 GND (power) "Ground", 20 GND (power) "Ground", 25 VCC (power) "Supply voltage", 29 GND (power) "Ground", 36 GND (power) "Ground", 41 VCC (power) "Supply voltage", 45 GND (power) "Ground", 52 GND (power) "Ground", 57 VCC (power) "Supply voltage", 61 GND (power) "Ground"

## SN74ABTH182504APM
designator U?
Scan Test Devices With 20-Bit Universal Bus Transceivers, PM0064A, JEDEC TRAY (10+1); Generic Part Number: SN74ABTH182504A; Manufacturer: Texas Instruments; PartNumber: SN74ABTH182504APM; VCC(Min)(V): 4.5; VCC(Max)(V): 5.5; Output Type: TTL; ICC @ Nom Voltage(Max)(mA): 30; Bits(#): 20; F @ Nom Voltage(Max)(Mhz): 150; Rating: Catalog; Technology Family: ABT; Voltage(Nom)(V): 5; Output Drive (IOL/IOH)(Max)(mA): 64/-32; Output Logic: True; tpd @ Nom Voltage(Max)(ns): 6.2; DatasheetVersion: SCBS165C; PackageReference: PM0064A; Supplier 1: Mouser; Supplier Part Number 1: 595-SN74ABTH182504AP; Supplier 2: Digi-Key; Supplier Part Number 2: 296-4132-ND; Input Type: TTL; Operating Temperature Range(C): -40 to 85; ComponentLink1Description: Manufacturer URL; ComponentLink1URL: http://www.ti.com/; ComponentLink2Description: Datasheet; ComponentLink2URL: http://www.ti.com/lit/ds/symlink/sn74abth182504a.pdf
footprint PM0064A_N (QFP, 64-Leads, Body 10x10mm, Pitch 0.5mm, IPC Medium Density)
footprint PM0064A_M (QFP, 64-Leads, Body 10x10mm, Pitch 0.5mm, IPC Low Density)
footprint PM0064A_L (QFP, 64-Leads, Body 10x10mm, Pitch 0.5mm, IPC High Density)
part A pins: 1 A4 (io) "Normal-function A-bus I/O ports. See function table for normal-mode logic.", 2 A5 (io) "Normal-function A-bus I/O ports. See function table for normal-mode logic.", 3 A6 (io) "Normal-function A-bus I/O ports. See function table for normal-mode logic.", 5 A7 (io) "Normal-function A-bus I/O ports. See function table for normal-mode logic.", 6 A8 (io) "Normal-function A-bus I/O ports. See function table for normal-mode logic.", 7 A9 (io) "Normal-function A-bus I/O ports. See function table for normal-mode logic.", 8 A10 (io) "Normal-function A-bus I/O ports. See function table for normal-mode logic.", 10 A11 (io) "Normal-function A-bus I/O ports. See function table for normal-mode logic.", 11 A12 (io) "Normal-function A-bus I/O ports. See function table for normal-mode logic.", 12 A13 (io) "Normal-function A-bus I/O ports. See function table for normal-mode logic.", 14 A14 (io) "Normal-function A-bus I/O ports. See function table for normal-mode logic.", 15 A15 (io) "Normal-function A-bus I/O ports. See function table for normal-mode logic.", 16 A16 (io) "Normal-function A-bus I/O ports. See function table for normal-mode logic.", 17 A17 (io) "Normal-function A-bus I/O ports. See function table for normal-mode logic.", 18 A18 (io) "Normal-function A-bus I/O ports. See function table for normal-mode logic.", 19 A19 (io) "Normal-function A-bus I/O ports. See function table for normal-mode logic.", 21 A20 (io) "Normal-function A-bus I/O ports. See function table for normal-mode logic.", 22 ~{CLKENAB} (in) "Normal-function clock enables. See function table for normal-mode logic.", 23 CLKAB (in) "Normal-function clock inputs. See function table for normal-mode logic.", 27 LEAB (in) "Normal-function latch enables. See function table for normal-mode logic.", 28 ~{OEAB} (in) "Normal-function output enables. See function table for normal-mode logic.", 30 B20 (io) "Normal-function B-bus I/O ports. See function table for normal-mode logic.", 31 B19 (io) "Normal-function B-bus I/O ports. See function table for normal-mode logic.", 32 B18 (io) "Normal-function B-bus I/O ports. See function table for normal-mode logic.", 33 B17 (io) "Normal-function B-bus I/O ports. See function table for normal-mode logic.", 34 B16 (io) "Normal-function B-bus I/O ports. See function table for normal-mode logic.", 35 B15 (io) "Normal-function B-bus I/O ports. See function table for normal-mode logic.", 37 B14 (io) "Normal-function B-bus I/O ports. See function table for normal-mode logic.", 38 B13 (io) "Normal-function B-bus I/O ports. See function table for normal-mode logic.", 39 B12 (io) "Normal-function B-bus I/O ports. See function table for normal-mode logic.", 40 B11 (io) "Normal-function B-bus I/O ports. See function table for normal-mode logic.", 42 B10 (io) "Normal-function B-bus I/O ports. See function table for normal-mode logic.", 43 B9 (io) "Normal-function B-bus I/O ports. See function table for normal-mode logic.", 44 B8 (io) "Normal-function B-bus I/O ports. See function table for normal-mode logic.", 46 B7 (io) "Normal-function B-bus I/O ports. See function table for normal-mode logic.", 47 B6 (io) "Normal-function B-bus I/O ports. See function table for normal-mode logic.", 48 B5 (io) "Normal-function B-bus I/O ports. See function table for normal-mode logic.", 49 B4 (io) "Normal-function B-bus I/O ports. See function table for normal-mode logic.", 50 B3 (io) "Normal-function B-bus I/O ports. See function table for normal-mode logic.", 51 B2 (io) "Normal-function B-bus I/O ports. See function table for normal-mode logic.", 53 B1 (io) "Normal-function B-bus I/O ports. See function table for normal-mode logic.", 54 ~{CLKENBA} (in) "Normal-function clock enables. See function table for normal-mode logic.", 55 CLKBA (in) "Normal-function clock inputs. See function table for normal-mode logic.", 59 LEBA (in) "Normal-function latch enables. See function table for normal-mode logic.", 60 ~{OEBA} (in) "Normal-function output enables. See function table for normal-mode logic.", 62 A1 (io) "Normal-function A-bus I/O ports. See function table for normal-mode logic.", 63 A2 (io) "Normal-function A-bus I/O ports. See function table for normal-mode logic.", 64 A3 (io) "Normal-function A-bus I/O ports. See function table for normal-mode logic."
part B pins: 24 TDI (in) "Test data input. One of four pins required by IEEE Standard 1149.1-1990. The test data input is the serial input for shifting data through the instruction register or selected data register. An internal pullup forces TDI to (See Datasheet)", 26 TCK (in) "Test clock. One of four pins required by IEEE Standard 1149.1-1990. Test operations of the device are synchronous to the test clock. Data is captured on the rising edge of TCK and outputs change on the falling edge of TCK.", 56 TMS (in) "Test mode select. One of four pins required by IEEE Standard 1149.1-1990. The test mode select input directs the device through its test access port (TAP) controller states. An internal pullup forces TMS to a high level if (See Datasheet)", 58 TDO (hiz) "Test data output. One of four pins required by IEEE Standard 1149.1-1990. The test data output is the serial output for shifting data through the instruction register or selected data register."
part C pins: 4 GND (power) "Ground", 9 VCC (power) "Supply voltage", 13 GND (power) "Ground", 20 GND (power) "Ground", 25 VCC (power) "Supply voltage", 29 GND (power) "Ground", 36 GND (power) "Ground", 41 VCC (power) "Supply voltage", 45 GND (power) "Ground", 52 GND (power) "Ground", 57 VCC (power) "Supply voltage", 61 GND (power) "Ground"